# Altium schematic symbol library EitLib.SchLib: 60 symbols (part 3 of 3)
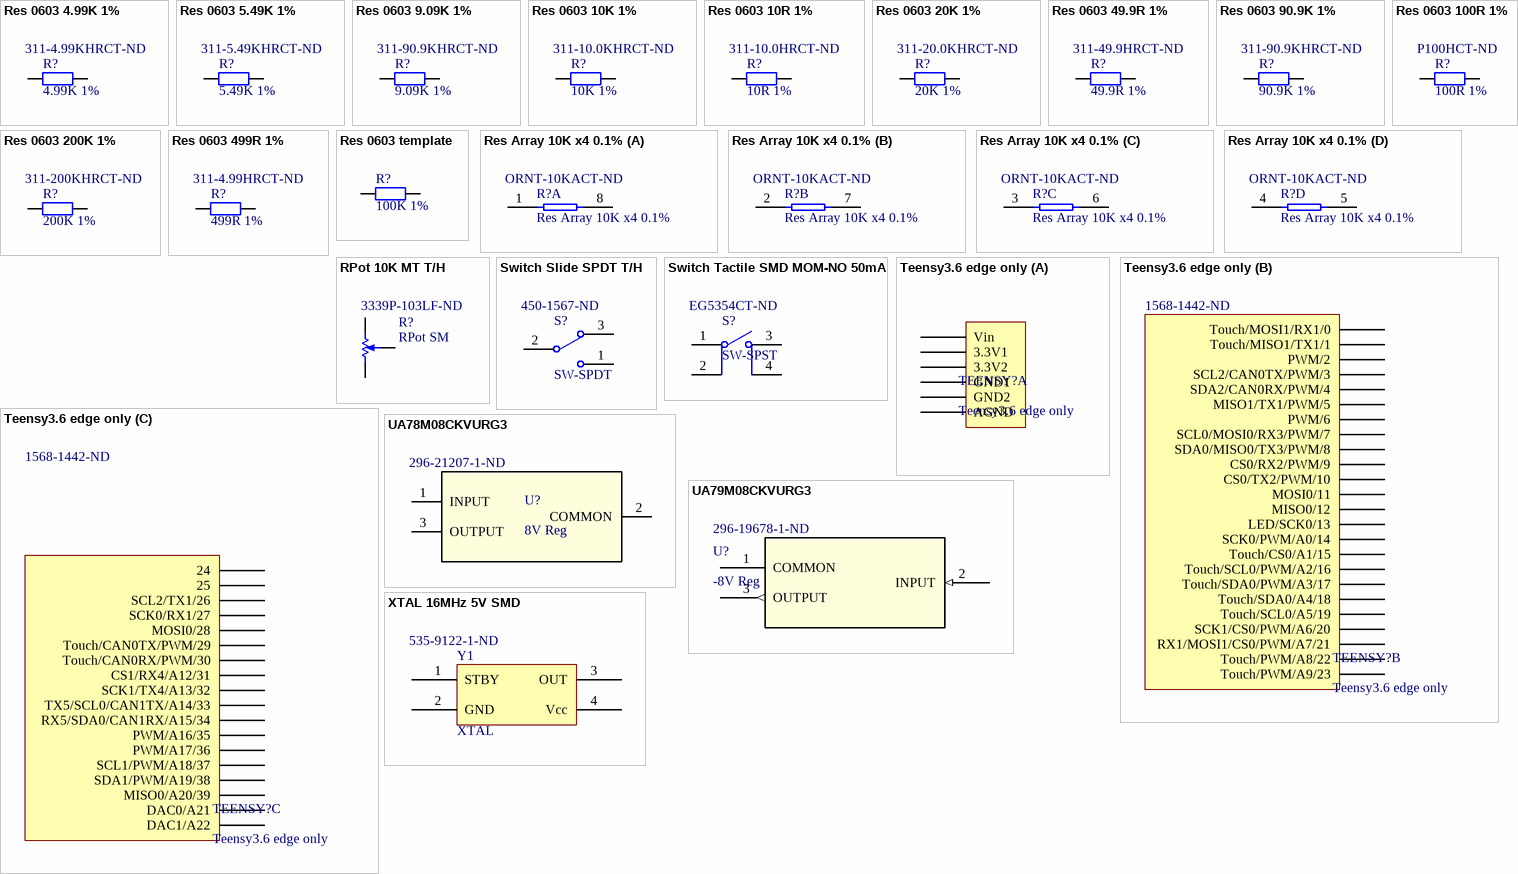
[diagram p3: symbols Res 0603 4.99K 1% to XTAL 16MHz 5V SMD]

## Res Array 10K x4 0.1%
designator R?  Supplier Part Number 1: ORNT-10KACT-ND
Res Thin Film NET 10K Ohm 0.1% 0.4W ±25ppm/°C ISOL Molded Epoxy 8-Pin SOIC Gull Wing SMD Medical T/R; Manufacturer: Vishay Dale Thin Film; Manufacturer Part Number: ORNTA1002AT1; Number of Terminals/Pins: 8; Voltage Rating: 100V; Resistance: 10kR; Number of Elements: 4; Circuit Type: Isolated; Power Per Element: 100mW; Supplier 1: Digi-Key; RoHS: Yes; Category: Resistor Arrays; Stock 1: 44707; Pricing 1: 1=3.86000, 10=3.45000, 25=3.24320, 50=2.96700, 100=2.55300, 250=2.20800, 500=2.00100 (USD); Mount: Surface Mount; Case/Package: DIP; Number of Pins: 8; Min Operating Temperature: -55°C; Max Operating Temperature: 125°C; Tolerance: 0.1%; Packaging: Tape and Reel; Package Quantity: 1; Termination: SMD/SMT; Number of Resistors: 4; Temperature Coefficient: 25ppm/°C; Voltage Rating (DC): 100V; Series: ORN; Resistance Tolerance: 0.1%; Technology: THIN FILM; Length: 0.194inch; Width: 3.99mm; Height: 0.068inch; Lead Pitch: 1.27mm; Radiation Hardening: No; REACH SVHC: Unknown; RoHS Compliant: Yes; ComponentLink1URL: https://datasheet.ciiva.com/23596/1750005-23596168.pdf?src-supplier=Newark; ComponentLink1Description: https://datasheet.ciiva.com/23596/1750005-23596168.pdf?src-supplier=Newark; ComponentLink2URL: https://datasheet.ciiva.com/2691/orn-2691499.pdf?src-supplier=Digi-Key; ComponentLink2Description: https://datasheet.ciiva.com/2691/orn-2691499.pdf?src-supplier=Digi-Key; ComponentLink3URL: https://datasheet.ciiva.com/2691/orn-2691500.pdf?src-supplier=Digi-Key; ComponentLink3Description: https://datasheet.ciiva.com/2691/orn-2691500.pdf?src-supplier=Digi-Key; ComponentLink4URL: https://datasheet.ciiva.com/2691/orn-2691501.pdf?src-supplier=Digi-Key; ComponentLink4Description: https://datasheet.ciiva.com/2691/orn-2691501.pdf?src-supplier=Digi-Key; ComponentLink5URL: https://datasheet.ciiva.com/8352/orn-8352811.pdf?src-supplier=Avnet; ComponentLink5Description: https://datasheet.ciiva.com/8352/orn-8352811.pdf?src-supplier=Avnet; ComponentLink6URL: https://datasheet.ciiva.com/5036/orn-102377-5036262.pdf?src-supplier=Mouser; ComponentLink6Description: https://datasheet.ciiva.com/5036/orn-102377-5036262.pdf?src-supplier=Mouser
simulation model RESISTOR (Resistor)
signal-integrity model Res Pack
footprint 8-SOIC
part A pins: 1, 8
part B pins: 2, 7
part C pins: 3, 6
part D pins: 4, 5

## RPot 10K MT T/H
designator R?, comment RPot SM  Supplier Part Number 1: 3339P-103LF-ND
TRIMMER 10K OHM 0.5W PC PIN TOP; Manufacturer: Bourns; Manufacturer Part Number: 3339P-1-103LF; Tolerance: 10%; Power Rating: 500mW; Resistance: 10kR; Voltage Rating: 300V; Number of Turns: 4; Temperature Coefficient: 100ppm/°C; Lead Diameter: 0.43mm; Body Diameter: 7.62mm; Supplier 1: Digi-Key; RoHS: Yes; Category: Variable Resistors and Potentiometers; Stock 1: 506; Pricing 1: 1=5.76000, 10=5.28000, 25=4.70400, 50=4.41600, 100=4.03200, 250=3.26400, 500=3.07200, 1000=2.88000 (USD); Mount: Through Hole,PCB; Case/Package: Radial; Weight: 0.02oz; Color: Blue; Min Operating Temperature: -55°C; Max Operating Temperature: 150°C; Voltage Rating (DC): 300V; Packaging: Rail/Tube; Package Quantity: 50; Resistor Type: Cermet; Termination: Pin; Taper: Linear; Max Power Dissipation: 500mW; Type: Potentiometer; Series: 3339P; Resistance Tolerance: 10%; Technology: CERMET; Diameter: 7.62mm; Length: 7.62mm; Width: 6.25mm; Height: 0.25inch; Radiation Hardening: No; REACH SVHC: No SVHC; Military Standard: Not; Lead Free: Lead Free; RoHS Compliant: Yes; ComponentLink1URL: https://datasheet.ciiva.com/27050/854612-27050459.pdf?src-supplier=Jameco; ComponentLink1Description: https://datasheet.ciiva.com/27050/854612-27050459.pdf?src-supplier=Jameco; ComponentLink2URL: https://datasheet.ciiva.com/11831/0900766b80dc51fa-11831611.pdf?src-supplier=RSComponents; ComponentLink2Description: https://datasheet.ciiva.com/11831/0900766b80dc51fa-11831611.pdf?src-supplier=RSComponents; ComponentLink3URL: https://datasheet.ciiva.com/2157/3339-2157055.pdf?src-supplier=Digi-Key; ComponentLink3Description: https://datasheet.ciiva.com/2157/3339-2157055.pdf?src-supplier=Digi-Key; ComponentLink4URL: https://datasheet.ciiva.com/3267/3339-3267293.pdf?src-supplier=Avnet; ComponentLink4Description: https://datasheet.ciiva.com/3267/3339-3267293.pdf?src-supplier=Avnet; ComponentLink5URL: https://datasheet.ciiva.com/30163/3339-30163223.pdf?src-supplier=Onlinecomponents.com; ComponentLink5Description: https://datasheet.ciiva.com/30163/3339-30163223.pdf?src-supplier=Onlinecomponents.com; ComponentLink6URL: https://datasheet.ciiva.com/1477/1497816-1477707.pdf?src-supplier=Element14; ComponentLink6Description: https://datasheet.ciiva.com/1477/1497816-1477707.pdf?src-supplier=Element14
footprint Bourns SMD Pot
pins: CCW +, CW -, W
1 alternate drawing of the same symbol

## Switch Slide SPDT T/H
designator S?, comment SW-SPDT  Supplier Part Number 1: 450-1567-ND
SWITCH SLIDE SPDT 300MA 125V; Manufacturer: TE Connectivity Alcoswitch; Manufacturer Part Number: 1825255-1; Actuator Material: Polyoxymethylene,Acetal; Mechanical Life: 15000Cycles; Contact Resistance: 30mR; Switch Function: On-On; Actuator Type: Standard; Operating Force: 600gf; Contact Style: Shorting; Number of Positions: 2; Switch Travel: 4mm; PCB Mount Retention: With; Actuator Length: 4.5mm; Tail Length: 3.51mm; ComponentLink1Description: Manufacturer Link; ComponentLink1URL: http://www.apem.com; Supplier 1: Digi-Key; RoHS: Yes; Category: Slide Switches; Stock 1: 3432; Pricing 1: 1=0.85000, 10=0.82000, 25=0.76640, 100=0.66540, 250=0.60552, 500=0.56136, 1000=0.52037, 2500=0.47306, 5000=0.44524 (USD); Mount: Through Hole; Contact Material: Copper Alloy; Contact Plating: Silver; Min Operating Temperature: -20°C; Max Operating Temperature: 85°C; Throw Configuration: SPDT; Voltage Rating (AC): 125V; Max Voltage Rating (AC): 125V; Package Quantity: 560; Termination: PC Pin; Electrical Life: 15000Cycles; Orientation: Vertical; Contact Current Rating: 300mA; Series: MHS; Packaging: Tray; Max Current Rating: 300mA; Current Rating: 300mA; Type: Switch; Length: 0.5906inch; Width: 6.2mm; Depth: 6.7mm; Radiation Hardening: No; Lead Free: Lead Free; Flammability Rating: UL94 HB; REACH SVHC: Unknown; ELV: Compliant; RoHS Compliant: Yes; ComponentLink2URL: https://datasheet.ciiva.com/16312/1825255-1-16312669.pdf?src-supplier=Future+Electronics; ComponentLink2Description: https://datasheet.ciiva.com/16312/1825255-1-16312669.pdf?src-supplier=Future+Electronics; ComponentLink3URL: https://datasheet.ciiva.com/26326/701730-da-01-en-schiebeschalter-mhs12204-26326741.pdf?src-supplier=Conrad; ComponentLink3Description: https://datasheet.ciiva.com/26326/701730-da-01-en-schiebeschalter-mhs12204-26326741.pdf?src-supplier=Conrad; ComponentLink4URL: https://datasheet.ciiva.com/30160/eng-cs-1308111-1-switches-core-program-catalog-03082-30160106.pdf?src-supplier=Onlinecomponents.com; ComponentLink4Description: https://datasheet.ciiva.com/30160/eng-cs-1308111-1-switches-core-program-catalog-03082-30160106.pdf?src-supplier=Onlinecomponents.com; ComponentLink5URL: https://datasheet.ciiva.com/1532/921681-1532372.pdf?src-supplier=Element14; ComponentLink5Description: https://datasheet.ciiva.com/1532/921681-1532372.pdf?src-supplier=Element14
footprint Switch Slide SPDT
pins: 1, 2, 3

## Switch Tactile SMD MOM-NO 50mA
designator S?, comment SW-SPST  Supplier Part Number 1: EG5354CT-ND
Switch Tactile N.O. SPST Round Button Gull Wing 0.05A 12VDC 2.55N SMD T/R; Manufacturer: E-Switch; Manufacturer Part Number: TL3305BF260QG; Mechanical Life: 200000Cycles; Illumination Type: Non-Illuminated; Operating Force: 260gf; Switch Travel: 0.2mm; Switch Function: Off-Mom; Actuator Type: Standard; Supplier 1: Digi-Key; RoHS: Yes; Category: Tactile Switches; Stock 1: 96859; Pricing 1: 1=0.20000, 10=0.19600, 25=0.18600, 100=0.16920, 250=0.15904, 500=0.14550 (USD); Mount: Surface Mount; Min Operating Temperature: -20°C; Max Operating Temperature: 70°C; Packaging: Tape and Reel; Termination: Gull Wing; Throw Configuration: SPST; Lead Free: Lead Free; RoHS Compliant: Yes; ComponentLink1URL: http://www.farnell.com/datasheets/2554191.pdf?src-supplier=Farnell; ComponentLink1Description: http://www.farnell.com/datasheets/2554191.pdf?src-supplier=Farnell; ComponentLink2URL: https://www.e-switch.com/system/asset/product_line/data_sheet/213/TL3305.pdf?src-supplier=Digi-Key; ComponentLink2Description: https://www.e-switch.com/system/asset/product_line/data_sheet/213/TL3305.pdf?src-supplier=Digi-Key; ComponentLink3URL: http://spec_sheets.e-switch.com/specs/P010472.pdf?src-supplier=Digi-Key; ComponentLink3Description: http://spec_sheets.e-switch.com/specs/P010472.pdf?src-supplier=Digi-Key; ComponentLink4URL: http://www.farnell.com/datasheets/2554191.pdf?src-supplier=Newark; ComponentLink4Description: http://www.farnell.com/datasheets/2554191.pdf?src-supplier=Newark
footprint Tactile Switch SMD MOM
pins: 1 COMMON, 2 NO, 3 COMMON, 4 NO

## Teensy3.6 edge only
designator TEENSY?  Supplier Part Number 1: 1568-1442-ND
TEENSY 3.6; Manufacturer: SparkFun; Manufacturer Part Number: DEV-14057; Evaluation Kit: Yes; Core Architecture: ARM; Supplier 1: Digi-Key; RoHS: No; Category: Embedded Processors and Controllers; Stock 1: 638; Pricing 1: 1=32.50000 (USD); ComponentLink1URL: https://media.digikey.com/pdf/Data%20Sheets/Sparkfun%20PDFs/DEV-14057_Web.pdf?src-supplier=Digi-Key; ComponentLink1Description: https://media.digikey.com/pdf/Data%20Sheets/Sparkfun%20PDFs/DEV-14057_Web.pdf?src-supplier=Digi-Key
footprint Teensy3.6-edgeonly
part A pins: 3.3V1 (power), 3.3V2 (power), AGND (power), GND1 (power), GND2 (power), VIN Vin (power)
part B pins: 0 Touch/MOSI1/RX1/0, 1 Touch/MISO1/TX1/1, 2 PWM/2, 3 SCL2/CAN0TX/PWM/3, 4 SDA2/CAN0RX/PWM/4, 5 MISO1/TX1/PWM/5, 6 PWM/6, 7 SCL0/MOSI0/RX3/PWM/7, 8 SDA0/MISO0/TX3/PWM/8, 9 CS0/RX2/PWM/9, 10 CS0/TX2/PWM/10, 11 MOSI0/11, 12 MISO0/12, 13 LED/SCK0/13, 14 SCK0/PWM/A0/14, 15 Touch/CS0/A1/15, 16 Touch/SCL0/PWM/A2/16, 17 Touch/SDA0/PWM/A3/17, 18 Touch/SDA0/A4/18, 19 Touch/SCL0/A5/19, 20 SCK1/CS0/PWM/A6/20, 21 RX1/MOSI1/CS0/PWM/A7/21, 22 Touch/PWM/A8/22, 23 Touch/PWM/A9/23
part C pins: 24, 25, 26 SCL2/TX1/26, 27 SCK0/RX1/27, 28 MOSI0/28, 29 Touch/CAN0TX/PWM/29, 30 Touch/CAN0RX/PWM/30, 31 CS1/RX4/A12/31, 32 SCK1/TX4/A13/32, 33 TX5/SCL0/CAN1TX/A14/33, 34 RX5/SDA0/CAN1RX/A15/34, 35 PWM/A16/35, 36 PWM/A17/36, 37 SCL1/PWM/A18/37, 38 SDA1/PWM/A19/38, 39 MISO0/A20/39, A21 DAC0/A21, A22 DAC1/A22

## UA78M08CKVURG3
designator U?, comment 8V Reg  Supplier Part Number 1: 296-21207-1-ND
Reg LDO 8V 500mA; Manufacturer: Texas Instruments; Manufacturer Part Number: UA78M08CKVURG3; Dropout Voltage: 2V; Max Input Voltage: 25V; Min Input Voltage: 10.5V; Number of Outputs: 1; Polarity: Positive; Power Supply Rejection Ratio (PSRR): 80dB; Quiescent Current: 4.6mA; Output Type: Fixed; Supplier 1: Digi-Key; RoHS: Yes; Category: Voltage Regulators - Linear; Stock 1: 1196; Pricing 1: 1=0.72000, 10=0.63000, 25=0.59160, 100=0.44840, 250=0.38160, 500=0.36252, 1000=0.27666 (USD); Mount: Surface Mount; Case/Package: TO-252-3; Number of Pins: 3; Weight: 0.011598oz; Contact Plating: Tin; Min Operating Temperature: -40°C; Max Operating Temperature: 125°C; Packaging: Tape and Reel; Package Quantity: 1; Output Voltage: 8V; Output Current: 500mA; Max Output Current: 500mA; Number of Regulators: 1; Series: -; Radiation Hardening: No; Lead Free: Lead Free; RoHS Compliant: Yes; ComponentLink1URL: https://datasheet.ciiva.com/2044/ua78m05-2044295.pdf?src-supplier=Digi-Key; ComponentLink1Description: https://datasheet.ciiva.com/2044/ua78m05-2044295.pdf?src-supplier=Digi-Key; ComponentLink2URL: https://datasheet.ciiva.com/2044/ua78m05-2044296.pdf?src-supplier=Digi-Key; ComponentLink2Description: https://datasheet.ciiva.com/2044/ua78m05-2044296.pdf?src-supplier=Digi-Key; ComponentLink3URL: https://datasheet.ciiva.com/2044/ua78m05-2044297.pdf?src-supplier=Digi-Key; ComponentLink3Description: https://datasheet.ciiva.com/2044/ua78m05-2044297.pdf?src-supplier=Digi-Key
footprint TO-252 LargePads
pins: 1 INPUT (power), 2 COMMON (power), 3 OUTPUT (power)

## UA79M08CKVURG3
designator U?, comment -8V Reg  Supplier Part Number 1: 296-19678-1-ND
Reg LDO -8V 500mA; Manufacturer: Texas Instruments; Manufacturer Part Number: UA79M08CKVURG3; Number of Outputs: 1; Min Input Voltage: -10.5V; Max Input Voltage: -25V; Dropout Voltage: 1.1V; Polarity: Negative; Quiescent Current: 2mA; Power Supply Rejection Ratio (PSRR): 59dB; Output Type: Fixed; Supplier 1: Digi-Key; RoHS: Yes; Category: Voltage Regulators - Linear; Stock 1: 1283; Pricing 1: 1=0.63000, 10=0.55600, 25=0.52240, 100=0.39610, 250=0.33708, 500=0.32022, 1000=0.24438 (USD); Mount: Surface Mount; Case/Package: TO-252-3; Number of Pins: 3; Weight: 0.011598oz; Contact Plating: Tin; Min Operating Temperature: 0°C; Max Operating Temperature: 125°C; Output Voltage: -8V; Packaging: Tape and Reel; Output Current: 500mA; Max Output Current: 500mA; Package Quantity: 2500; Number of Regulators: 1; Nominal Output Voltage: -8V; Series: -; Radiation Hardening: No; REACH SVHC: No SVHC; Lead Free: Lead Free; RoHS Compliant: Yes; ComponentLink1URL: https://datasheet.ciiva.com/14274/ua79m08-14274981.pdf?src-supplier=Avnet; ComponentLink1Description: https://datasheet.ciiva.com/14274/ua79m08-14274981.pdf?src-supplier=Avnet; ComponentLink2URL: https://datasheet.ciiva.com/2042/ua79m05-2042224.pdf?src-supplier=Digi-Key; ComponentLink2Description: https://datasheet.ciiva.com/2042/ua79m05-2042224.pdf?src-supplier=Digi-Key; ComponentLink3URL: https://datasheet.ciiva.com/26904/ua79m08ckvurg3-26904080.pdf?src-supplier=IIIC; ComponentLink3Description: https://datasheet.ciiva.com/26904/ua79m08ckvurg3-26904080.pdf?src-supplier=IIIC; ComponentLink4URL: https://datasheet.ciiva.com/26170/ua79m05-26170988.pdf?src-supplier=Avnet+Europe; ComponentLink4Description: https://datasheet.ciiva.com/26170/ua79m05-26170988.pdf?src-supplier=Avnet+Europe; ComponentLink5URL: https://datasheet.ciiva.com/2042/ua79m05-2042222.pdf?src-supplier=Digi-Key; ComponentLink5Description: https://datasheet.ciiva.com/2042/ua79m05-2042222.pdf?src-supplier=Digi-Key; ComponentLink6URL: https://datasheet.ciiva.com/2042/ua79m05-2042223.pdf?src-supplier=Digi-Key; ComponentLink6Description: https://datasheet.ciiva.com/2042/ua79m05-2042223.pdf?src-supplier=Digi-Key
footprint TO-252 LargePads
pins: 1 COMMON (power), 2 INPUT (in), 3 OUTPUT (out)

## XTAL 16MHz 5V SMD
designator Y1, comment XTAL  Supplier Part Number 1: 535-9122-1-ND
CRYSTAL, 16MHZ, 18PF, 5 X 3.2MM; Product Range:ABM3B Series; Frequency Nom:16MHz; Frequency Stability + / -:50ppm; Frequency Tolerance + / -:20ppm; Crystal Case:SMD, 5mm x 3.2mm; Load Capacitance:18pF; Operating Temperature Min:-20 C;RoHS Compliant: Yes; Manufacturer: Abracon; Manufacturer Part Number: ABM3B-16.000MHZ-B2-T; ESR (Equivalent Series Resistance): 50R; Tolerance: 20ppm; Frequency Stability: 50ppm; Supplier 1: Digi-Key; RoHS: Yes; Category: Crystals; Stock 1: 37377; Pricing 1: 1=0.95000, 10=0.83900, 50=0.78440, 100=0.69310, 500=0.65664 (USD); Mount: Surface Mount; Case/Package: CSMD; Number of Pins: 4; Min Operating Temperature: -20°C; Max Operating Temperature: 70°C; Frequency: 16MHz; Load Capacitance: 18pF; Packaging: Tape and Reel; Package Quantity: 1000; Frequency Tolerance: 20ppm; Termination: SMD/SMT; Resistor Type: Ceramic; Accuracy: 20ppm; Series: ABM3B; Operating Frequency: 16 MHz; Length: 5mm; Width: 3.2mm; Height: 0.043inch; Depth: 3.2mm; REACH SVHC: No SVHC; Lead Free: Lead Free; ComponentLink1URL: https://datasheet.ciiva.com/855/abm3b-855719.pdf?src-supplier=Digi-Key; ComponentLink1Description: https://datasheet.ciiva.com/855/abm3b-855719.pdf?src-supplier=Digi-Key; ComponentLink2URL: https://datasheet.ciiva.com/855/abm3b-855720.pdf?src-supplier=Digi-Key; ComponentLink2Description: https://datasheet.ciiva.com/855/abm3b-855720.pdf?src-supplier=Digi-Key; ComponentLink3URL: https://datasheet.ciiva.com/855/abm3b-855721.pdf?src-supplier=Digi-Key; ComponentLink3Description: https://datasheet.ciiva.com/855/abm3b-855721.pdf?src-supplier=Digi-Key; ComponentLink4URL: https://datasheet.ciiva.com/3175/abm3b-3175822.pdf?src-supplier=Avnet; ComponentLink4Description: https://datasheet.ciiva.com/3175/abm3b-3175822.pdf?src-supplier=Avnet; ComponentLink5URL: https://datasheet.ciiva.com/16410/abm3b-16410983.pdf?src-supplier=Future+Electronics; ComponentLink5Description: https://datasheet.ciiva.com/16410/abm3b-16410983.pdf?src-supplier=Future+Electronics; ComponentLink6URL: https://datasheet.ciiva.com/7998/1883675-7998599.pdf?src-supplier=Element14; ComponentLink6Description: https://datasheet.ciiva.com/7998/1883675-7998599.pdf?src-supplier=Element14
footprint XTAL SMD
simulation model XTAL (Spice Subcircuit)
pins: 1 STBY, 2 GND, 3 OUT, 4 Vcc